# Altium footprint library 1653090.PcbLib: 1 footprints
Each footprint in its own frame and in the unit in brackets; x right, y up, seen from the top. Pads: shape width x height; smd on the part's side, far side on the other; paste and mask are expansions set on the pad; w line width, h text height; cw(c..) or ccw(c..) is an arc to the next point about the centre after c.
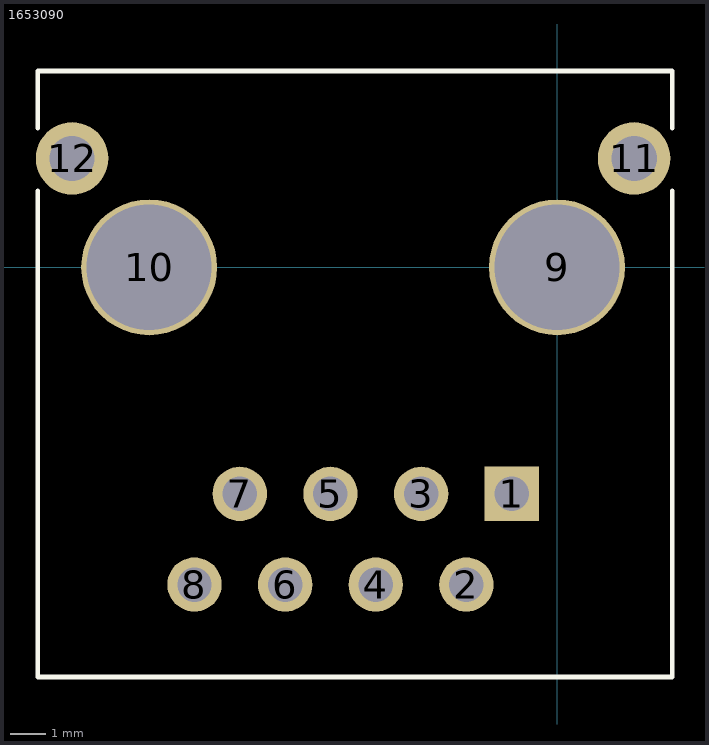
[diagram p0: the footprint, top view; thin cyan lines are the x and y axes]

## 1653090 [mil]
pads (12):
  rect 60x60 hole 38: 1(-50,-250)
  round 60 hole 38: 2(-100,-350) 3(-150,-250) 4(-200,-350) 5(-250,-250) 6(-300,-350) 7(-350,-250) 8(-400,-350)
  round 150 hole 138 unplated: 9(0,0) 10(-450,0)
  round 80 hole 50: 11(85.04,120.08) 12(-535.04,120.08)
Top Overlay:
  lines w5: -572.83,84.65 -572.83,-452 127,-452 127,84.65 ; -572.83,153.54 -572.83,216.54 127,216.54 127,153.54
3D body "pxc_1653090_00_VS-08-BU-RJ45-6-LV-1_3D.stp": height 649.61, standoff -149.61, extent -569.46,-448.42 123.46,213